# Altium schematic symbol library Diode_TPSMA.Schlib: 1 symbol
Pins are listed as number, name and electrical type; pins without a type are passive.

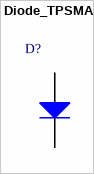
[diagram p0: symbol Diode_TPSMA]

## Diode_TPSMA
designator D?
footprint DO-214AC
pins: 1 A, 2 K